# EAGLE library part SN75240PW (library texas)
Texas Instrument SN75240PW TSSOP SMD USB Port Transient Suppressor Datasheet <http://www.ti.com/lit/ds/symlink/sn75240.pdf>
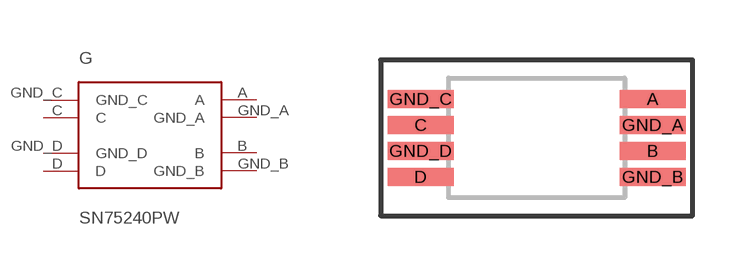
[diagram p123: symbol with the pads of SN75240PW; footprint SN75240PW]

Designator prefix G

## SN75240PW'TSSOP  [SN75240PW]
A  A
B  B
C  C
D  D
GND_A  GND_A  pwr
GND_B  GND_B  pwr
GND_C  GND_C  pas
GND_D  GND_D  pwr

## Footprint SN75240PW (pad centres in mm)
smd 1.65 x 0.45: A 2.9,0.975; B 2.9,-0.325; C -2.9,0.325; D -2.9,-0.975; GND_A 2.9,0.325; GND_B 2.9,-0.975; GND_C -2.9,0.975; GND_D -2.9,-0.325